# EAGLE library part TEXAS_INSTRUMENTS-LEVEL_SHIFTER-P82B715_P_8 (library Module_ICs)
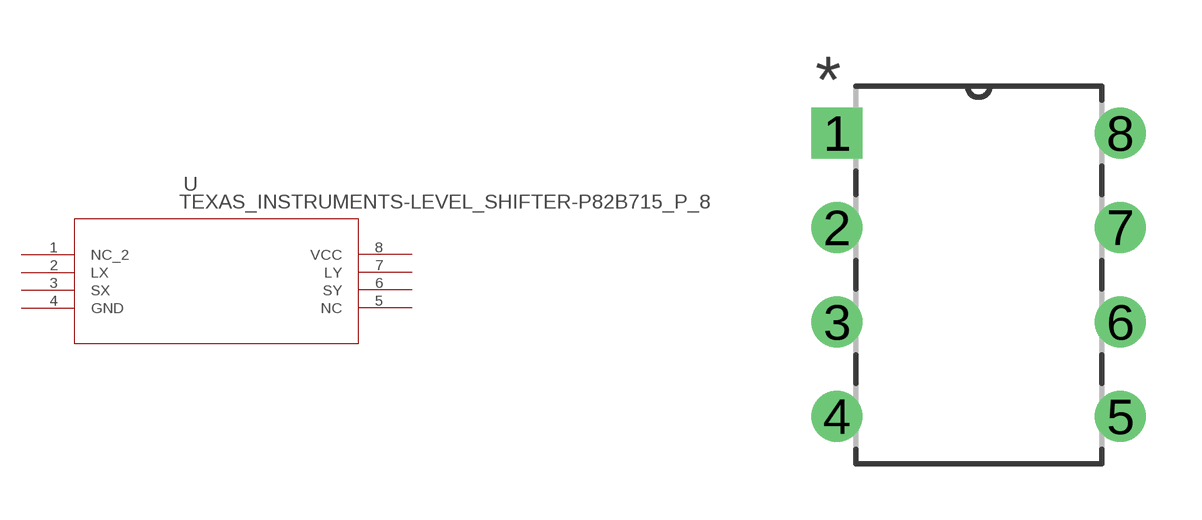
[diagram p16: symbol with the pads of TEXAS_INSTRUMENTS-LEVEL_SHIFTER-P82B715_P_8; footprint TEXAS_INSTRUMENTS-LEVEL_SHIFTER-P82B715_P_8]

Designator prefix U

## TEXAS_INSTRUMENTS-LEVEL_SHIFTER-P82B715_P_8 (DATASHEETURL: httpwww.ti.comlitgpnP82B715; FAMILY_NAME: I2C HUB BUFFER REPEATER; GENERIC_PART_NUMBER: P82B715; INDUSTRY_STD_PKG_TYPE: PDIP; MANUFACTURER: Texas Instruments; MANUFACTURER_PART_NUMBER: p82b715_p_8; PACKAGE_DESIGNATOR: P; PIN_COUNT: 8; VENDOR: Texas Instruments)  [TEXAS_INSTRUMENTS-LEVEL_SHIFTER-P82B715_P_8]
1  NC_2  pas
2  LX  pas
3  SX  pas
4  GND  pwr
5  NC  pas
6  SY  pas
7  LY  pas
8  VCC  pwr

## Footprint TEXAS_INSTRUMENTS-LEVEL_SHIFTER-P82B715_P_8 (pad centres in mm)
drill 0.864 pad 1.372 square: 1 -7.62,7.62
drill 0.864 pad 1.372: 2 -7.62,5.08; 3 -7.62,2.54; 4 -7.62,0; 5 0,0; 6 0,2.54; 7 0,5.08; 8 0,7.62